# Altium footprint library MasterLib.PcbLib: 80 footprints (part 3 of 5)
Each footprint in its own frame and in the unit in brackets; x right, y up, seen from the top. Pads: shape width x height; smd on the part's side, far side on the other; paste and mask are expansions set on the pad; w line width, h text height; cw(c..) or ccw(c..) is an arc to the next point about the centre after c.
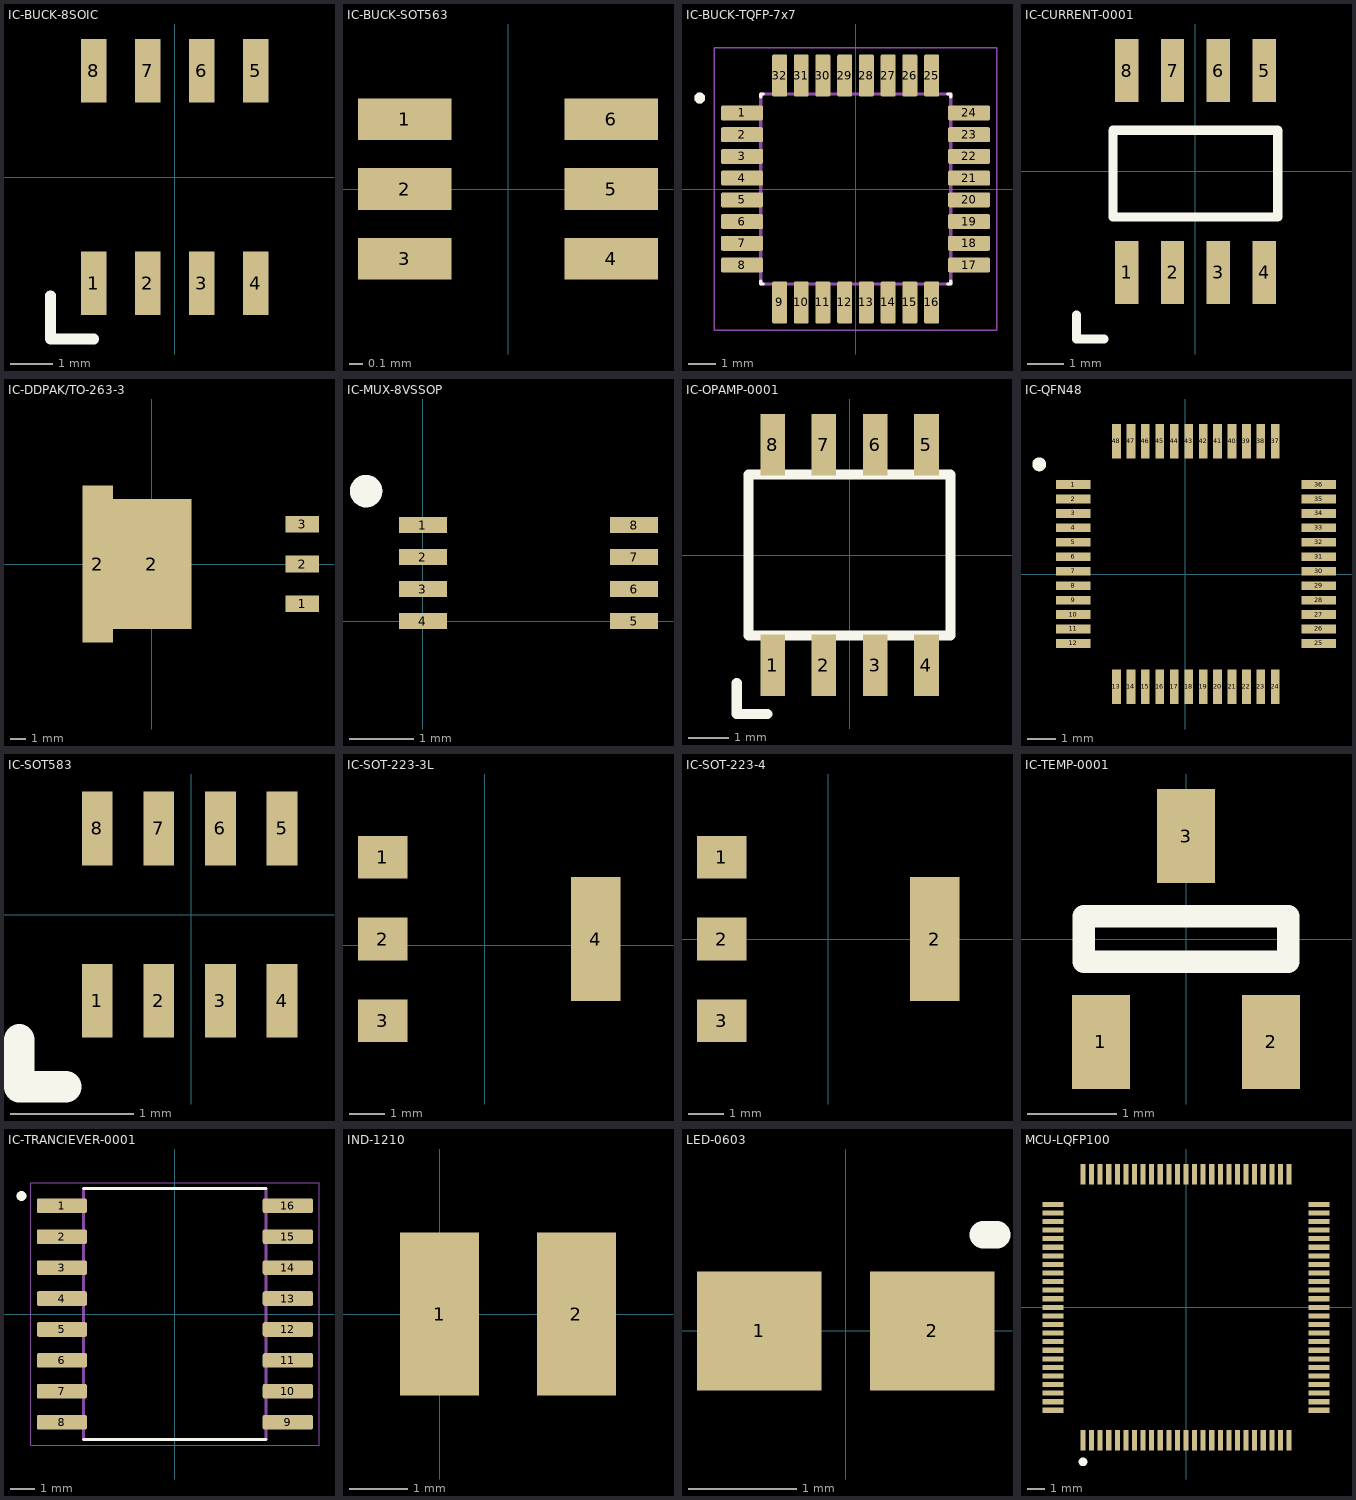
[diagram p2: the footprints below, top view; thin cyan lines are the x and y axes]

## IC-BUCK-8SOIC [mm]
pads (8):
  rect 0.6x1.5 smd: 1(-1.905,-2.5) 2(-0.635,-2.5) 3(0.635,-2.5) 4(1.905,-2.5) 5(1.905,2.5) 6(0.635,2.5) 7(-0.635,2.5) 8(-1.905,2.5)
Top Overlay:
  lines w0.254: -2.921,-2.794 -2.921,-3.81 -1.905,-3.81
3D body "SOIC-8_3.9x4.9mm_P1.27mm.step": height 1.75, standoff 0, extent -2.45,-3 2.45,3

## IC-BUCK-SOT563 [mm]
pads (6):
  rect 0.67x0.3 smd: 1(-0.74,0.5) 2(-0.74,0) 3(-0.74,-0.5) 4(0.74,-0.5) 5(0.74,0) 6(0.74,0.5)
3D body "ESDA14V2BP6.STEP": height 0.6, standoff 0, extent -0.8,-0.8 0.8,0.8

## IC-BUCK-TQFP-7x7 [mm]
pads (32):
  rrect25% 1.56x0.55 smd: 1(-4.18,2.8) 2(-4.18,2) 3(-4.18,1.2) 4(-4.18,0.4) 5(-4.18,-0.4) 6(-4.18,-1.2) 7(-4.18,-2) 8(-4.18,-2.8) 17(4.18,-2.8) 18(4.18,-2) 19(4.18,-1.2) 20(4.18,-0.4) 21(4.18,0.4) 22(4.18,1.2) 23(4.18,2) 24(4.18,2.8)
  rrect25% 0.55x1.56 smd: 9(-2.8,-4.18) 10(-2,-4.18) 11(-1.2,-4.18) 12(-0.4,-4.18) 13(0.4,-4.18) 14(1.2,-4.18) 15(2,-4.18) 16(2.8,-4.18) 25(2.8,4.18) 26(2,4.18) 27(1.2,4.18) 28(0.4,4.18) 29(-0.4,4.18) 30(-1.2,4.18) 31(-2,4.18) 32(-2.8,4.18)
Top Overlay:
  circle w0.2: c-5.74,3.35 r0.1
  lines w0.127: -3.5,-3.395 -3.5,-3.5 -3.395,-3.5 ; -3.5,3.395 -3.5,3.5 -3.395,3.5 ; 3.395,-3.5 3.5,-3.5 3.5,-3.395 ; 3.395,3.5 3.5,3.5 3.5,3.395
Mechanical 13:
  circle w0.2: c-5.74,3.35 r0.1
  lines w0.127: -3.5,-3.5 3.5,-3.5 3.5,3.5 -3.5,3.5 -3.5,-3.5
Mechanical 15:
  lines w0.05: -5.21,-5.21 5.21,-5.21 5.21,5.21 -5.21,5.21 -5.21,-5.21
3D body "step_temp.STEP": height 1.2, standoff 0, extent -4.5,-4.5 4.5,4.5

## IC-CURRENT-0001 [mm]
pads (8):
  rect 0.65x1.75 smd: 1(-1.905,-2.8) 2(-0.635,-2.8) 3(0.635,-2.8) 4(1.905,-2.8) 5(1.905,2.8) 6(0.635,2.8) 7(-0.635,2.8) 8(-1.905,2.8)
Top Overlay:
  lines w0.254: -3.302,-4.429 -3.302,-4.651 -2.54,-4.651 ; -3.302,-4.397 -3.302,-3.985 ; -2.286,-1.27 -2.286,1.143 2.286,1.143 2.286,-1.27 -2.286,-1.27
3D body "D0008A.stp": height 1.63, standoff 0, extent -2.451,-3.036 2.451,2.986

## IC-DDPAK/TO-263-3 [mm]
pads (5):
  rect 2.16x1.07 smd: 1(9.625,-2.54) 2(9.625,0) 3(9.625,2.54)
  rect 1.95x10.08 smd: 2(-3.469,0)
  rect 5.08x8.33 smd: 2(0,0)
3D body "NOPB.STEP": height 4.77, standoff -0.03, extent -4.176,-5.08 10.175,5.08

## IC-MUX-8VSSOP [mm]
pads (8):
  rect 0.75x0.25 smd: 1(0,1.5) 2(0,1) 3(0,0.5) 4(0,0) 5(3.3,0) 6(3.3,0.5) 7(3.3,1) 8(3.3,1.5)
Top Overlay:
  circle w0.254: c-0.889,2.032 r0.127
3D body "SN74LVC2G157DCUR.STEP": height 0.9, standoff 0, extent 0.101,-0.238 3.201,1.762

## IC-OPAMP-0001 [mil]
pads (8):
  rect 24x60 smd: 1(-75,-107.5) 2(-25,-107.5) 3(25,-107.5) 4(75,-107.5) 5(75,107.5) 6(25,107.5) 7(-25,107.5) 8(-75,107.5)
Top Overlay:
  lines w10: -110,-125 -110,-155 -80,-155 ; -98.5,-78.5 -98.5,78.5 98.5,78.5 98.5,-78.5 -98.5,-78.5
3D body "SOIC-8_3.9x4.9mm_P1.27mm.step": height 68.9, standoff 0, extent -96.46,-118.11 96.45,118.11

## IC-QFN48 [mm]
pads (48):
  rect 1.2x0.3 smd: 1(-3.875,3.1) 2(-3.875,2.6) 3(-3.875,2.1) 4(-3.875,1.6) 5(-3.875,1.1) 6(-3.875,0.6) 7(-3.875,0.1) 8(-3.875,-0.4) 9(-3.875,-0.9) 10(-3.875,-1.4) 11(-3.875,-1.9) 12(-3.875,-2.4) 25(4.625,-2.4) 26(4.625,-1.9) 27(4.625,-1.4) 28(4.625,-0.9) 29(4.625,-0.4) 30(4.625,0.1) 31(4.625,0.6) 32(4.625,1.1) 33(4.625,1.6) 34(4.625,2.1) 35(4.625,2.6) 36(4.625,3.1)
  rect 0.3x1.2 smd: 13(-2.375,-3.9) 14(-1.875,-3.9) 15(-1.375,-3.9) 16(-0.875,-3.9) 17(-0.375,-3.9) 18(0.125,-3.9) 19(0.625,-3.9) 20(1.125,-3.9) 21(1.625,-3.9) 22(2.125,-3.9) 23(2.625,-3.9) 24(3.125,-3.9) 37(3.125,4.6) 38(2.625,4.6) 39(2.125,4.6) 40(1.625,4.6) 41(1.125,4.6) 42(0.625,4.6) 43(0.125,4.6) 44(-0.375,4.6) 45(-0.875,4.6) 46(-1.375,4.6) 47(-1.875,4.6) 48(-2.375,4.6)
Top Overlay:
  lines w0.254: -4.963,3.73 cw(c-5.05,3.8) -4.95,3.75
3D body "LQFP48-7x7mm.step": height 1.6, standoff 0, extent -4.122,-4.147 4.872,4.847

## IC-SOT583 [mm]
pads (8):
  rect 0.25x0.6 smd: 1(-0.762,-0.7) 2(-0.262,-0.7) 3(0.238,-0.7) 4(0.738,-0.7) 5(0.738,0.7) 6(0.238,0.7) 7(-0.262,0.7) 8(-0.762,0.7)
Top Overlay:
  lines w0.254: -1.397,-1.016 -1.397,-1.397 -1.016,-1.397
3D body "SOT583_MP2182_MNP.step": height 0.56, standoff 0, extent -1.105,-0.851 1.105,0.851

## IC-SOT-223-3L [mm]
pads (4):
  rect 1.4x1.2 smd mask+0.07: 1(-2.875,2.475) 2(-2.875,0.175) 3(-2.875,-2.125)
  rect 1.4x3.5 smd: 4(3.125,0.175)
3D body "DCY0004A.stp": height 1.68, standoff 0, extent -3.375,-3.075 3.625,3.425

## IC-SOT-223-4 [mm]
pads (4):
  rect 1.4x1.2 smd mask+0.07: 1(-3,2.3) 2(-3,0) 3(-3,-2.3)
  rect 1.4x3.5 smd: 2(3,0)
3D body "DCY0004A.stp": height 1.68, standoff 0, extent -3.5,-3.25 3.5,3.25

## IC-TEMP-0001 [mm]
pads (3):
  rect 0.65x1.05 smd: 1(-0.95,-1.15) 2(0.95,-1.15) 3(0,1.15)
Top Overlay:
  lines w0.254: -1.143,-0.254 1.143,-0.254 1.143,0.254 -1.143,0.254 -1.143,-0.254

## IC-TRANCIEVER-0001 [mm]
pads (16):
  rrect25% 2.06x0.6 smd: 1(-4.64,4.445) 2(-4.64,3.175) 3(-4.64,1.905) 4(-4.64,0.635) 5(-4.64,-0.635) 6(-4.64,-1.905) 7(-4.64,-3.175) 8(-4.64,-4.445) 9(4.64,-4.445) 10(4.64,-3.175) 11(4.64,-1.905) 12(4.64,-0.635) 13(4.64,0.635) 14(4.64,1.905) 15(4.64,3.175) 16(4.64,4.445)
Top Overlay:
  circle w0.2: c-6.3,4.845 r0.1
  lines w0.127: -3.75,-5.15 3.75,-5.15 ; -3.75,5.15 3.75,5.15
Mechanical 13:
  circle w0.2: c-6.3,4.845 r0.1
  lines w0.127: -3.75,-5.15 3.75,-5.15 3.75,5.15 -3.75,5.15 -3.75,-5.15
Mechanical 15:
  lines w0.05: -5.92,-5.4 5.92,-5.4 5.92,5.4 -5.92,5.4 -5.92,-5.4
3D body "step_temp.STEP": height 2.65, standoff 0, extent -5.15,-5.15 5.15,5.15

## IND-1210 [mm]
pads (2):
  rect 1.35x2.8 smd: 1(0,0) 2(2.35,0)
3D body "User Library-3225.STEP": height 1.9, standoff 0, extent -0.425,-1.25 2.775,1.25

## LED-0603 [mm]
pads (2):
  rect 1.15x1.1 smd: 1(-0.8,0) 2(0.8,0)
Top Overlay:
  lines w0.254: 1.27,0.889 1.397,0.889
3D body "HSMW-C191.STEP": height 1, standoff 0, extent -0.8,-0.3 0.8,0.3

## MCU-LQFP100 [mm] "STM32F100VBT7B"
pads (100):
  rect 0.3x1.2 smd: 1(-6,-7.75) 2(-5.5,-7.75) 3(-5,-7.75) 4(-4.5,-7.75) 5(-4,-7.75) 6(-3.5,-7.75) 7(-3,-7.75) 8(-2.5,-7.75) 9(-2,-7.75) 10(-1.5,-7.75) 11(-1,-7.75) 12(-0.5,-7.75) 13(0,-7.75) 14(0.5,-7.75) 15(1,-7.75) 16(1.5,-7.75) 17(2,-7.75) 18(2.5,-7.75) 19(3,-7.75) 20(3.5,-7.75) 21(4,-7.75) 22(4.5,-7.75) 23(5,-7.75) 24(5.5,-7.75) 25(6,-7.75) 51(6,7.75) 52(5.5,7.75) 53(5,7.75) 54(4.5,7.75) 55(4,7.75) 56(3.5,7.75) 57(3,7.75) 58(2.5,7.75) 59(2,7.75) 60(1.5,7.75) 61(1,7.75) 62(0.5,7.75) 63(0,7.75) 64(-0.5,7.75) 65(-1,7.75) 66(-1.5,7.75) 67(-2,7.75) 68(-2.5,7.75) 69(-3,7.75) 70(-3.5,7.75) 71(-4,7.75) 72(-4.5,7.75) 73(-5,7.75) 74(-5.5,7.75) 75(-6,7.75)
  rect 1.2x0.3 smd: 26(7.75,-6) 27(7.75,-5.5) 28(7.75,-5) 29(7.75,-4.5) 30(7.75,-4) 31(7.75,-3.5) 32(7.75,-3) 33(7.75,-2.5) 34(7.75,-2) 35(7.75,-1.5) 36(7.75,-1) 37(7.75,-0.5) 38(7.75,0) 39(7.75,0.5) 40(7.75,1) 41(7.75,1.5) 42(7.75,2) 43(7.75,2.5) 44(7.75,3) 45(7.75,3.5) 46(7.75,4) 47(7.75,4.5) 48(7.75,5) 49(7.75,5.5) 50(7.75,6) 76(-7.75,6) 77(-7.75,5.5) 78(-7.75,5) 79(-7.75,4.5) 80(-7.75,4) 81(-7.75,3.5) 82(-7.75,3) 83(-7.75,2.5) 84(-7.75,2) 85(-7.75,1.5) 86(-7.75,1) 87(-7.75,0.5) 88(-7.75,0) 89(-7.75,-0.5) 90(-7.75,-1) 91(-7.75,-1.5) 92(-7.75,-2) 93(-7.75,-2.5) 94(-7.75,-3) 95(-7.75,-3.5) 96(-7.75,-4) 97(-7.75,-4.5) 98(-7.75,-5) 99(-7.75,-5.5) 100(-7.75,-6)
Top Overlay:
  circle w0.254: c-6,-9 r0.127
3D body "LQFP100-14x14mm.step": height 1.6, standoff 0, extent -7.997,-7.997 7.997,7.997